# EAGLE library part ARDUINO-NANO (library Arduino-nano)
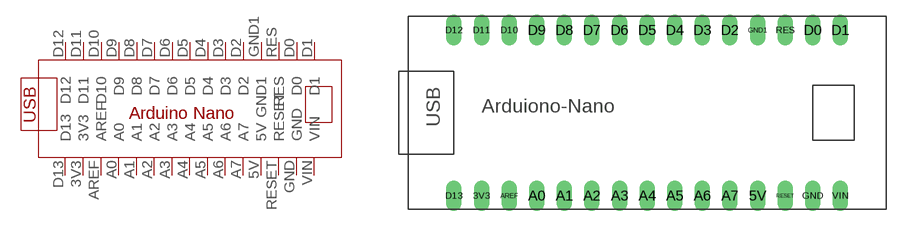
[diagram p0: symbol with the pads of ARDUINO-NANO; footprint ARDUINO-NANO]

Designator prefix -

## ARDUINO-NANO  [ARDUINO-NANO]
3V3  3V3
5V  5V
A0  A0
A1  A1
A2  A2
A3  A3
A4  A4
A5  A5
A6  A6
A7  A7
AREF  AREF
D0  D0
D1  D1
D2  D2
D3  D3
D4  D4
D5  D5
D6  D6
D7  D7
D8  D8
D9  D9
D10  D10
D11  D11
D12  D12
D13  D13
GND  GND
GND1  GND1
RES  RES
RESET  RESET
VIN  VIN

## Footprint ARDUINO-NANO (pad centres in mm)
drill 0.9 long: 3V3 -15.24,-7.62; 5V 10.16,-7.62; A0 -10.16,-7.62; A1 -7.62,-7.62; A2 -5.08,-7.62; A3 -2.54,-7.62; A4 0,-7.62; A5 2.54,-7.62; A6 5.08,-7.62; A7 7.62,-7.62; AREF -12.7,-7.62; D0 15.24,7.62; D1 17.78,7.62; D2 7.62,7.62; D3 5.08,7.62; D4 2.54,7.62; D5 0,7.62; D6 -2.54,7.62; D7 -5.08,7.62; D8 -7.62,7.62; D9 -10.16,7.62; D10 -12.7,7.62; D11 -15.24,7.62; D12 -17.78,7.62; D13 -17.78,-7.62; GND 15.24,-7.62; GND1 10.16,7.62; RES 12.7,7.62; RESET 12.7,-7.62; VIN 17.78,-7.62